# EAGLE library part MSATA (library logic-supply)
mSATA connector
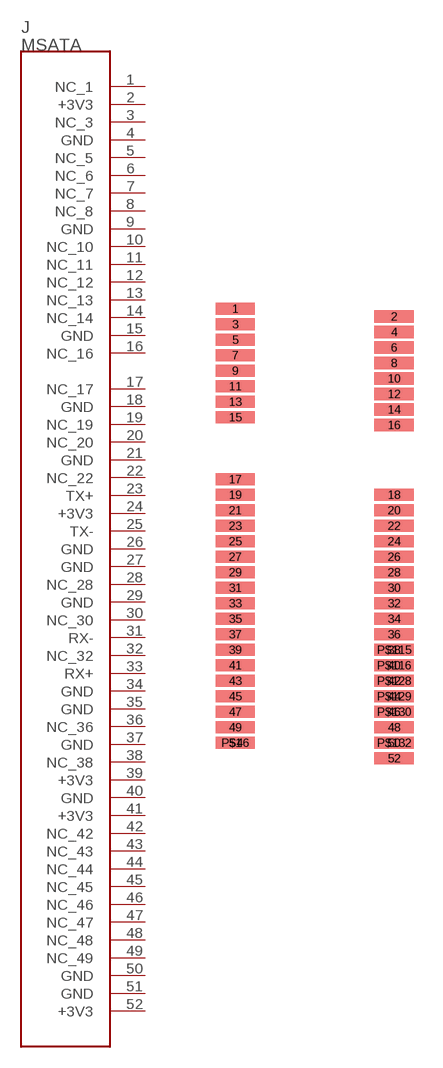
[diagram p52: symbol with the pads of MSATA; footprint MSATA]

Designator prefix J

## MSATA  [MSATA]
1  NC_1
2  +3V3
3  NC_3
4  GND
5  NC_5
6  NC_6
7  NC_7
8  NC_8
9  GND
10  NC_10
11  NC_11
12  NC_12
13  NC_13
14  NC_14
15  GND
16  NC_16
17  NC_17
18  GND
19  NC_19
20  NC_20
21  GND
22  NC_22
23  TX+
24  +3V3
25  TX-
26  GND
27  GND
28  NC_28
29  GND
30  NC_30
31  RX-
32  NC_32
33  RX+
34  GND
35  GND
36  NC_36
37  GND
38  NC_38
39  +3V3
40  GND
41  +3V3
42  NC_42
43  NC_43
44  NC_44
45  NC_45
46  NC_46
47  NC_47
48  NC_48
49  NC_49
50  GND
51  GND
52  +3V3

## Footprint MSATA (pad centres in mm)
mSATA basic footprint - un verified - CAUTION
smd 2.032 x 0.635: 1 -4.1,7.2; 2 4.1,6.8; 3 -4.1,6.4; 4 4.1,6; 5 -4.1,5.6; 6 4.1,5.2; 7 -4.1,4.8; 8 4.1,4.4; 9 -4.1,4; 10 4.1,3.6; 11 -4.1,3.2; 12 4.1,2.8; 13 -4.1,2.4; 14 4.1,2; 15 -4.1,1.6; 16 4.1,1.2; 17 -4.1,-1.6; 18 4.1,-2.4; 19 -4.1,-2.4; 20 4.1,-3.2; 21 -4.1,-3.2; 22 4.1,-4; 23 -4.1,-4; 24 4.1,-4.8; 25 -4.1,-4.8; 26 4.1,-5.6; 27 -4.1,-5.6; 28 4.1,-6.4; 29 -4.1,-6.4; 30 4.1,-7.2; 31 -4.1,-7.2; 32 4.1,-8; 33 -4.1,-8; 34 4.1,-8.8; 35 -4.1,-8.8; 36 4.1,-9.6; 37 -4.1,-9.6; 38 4.1,-10.4; 39 -4.1,-10.4; 40 4.1,-11.2; 41 -4.1,-11.2; 42 4.1,-12; 43 -4.1,-12; 44 4.1,-12.8; 45 -4.1,-12.8; 46 4.1,-13.6; 47 -4.1,-13.6; 48 4.1,-14.4; 49 -4.1,-14.4; 50 4.1,-15.2; 51 -4.1,-15.2; 52 4.1,-16; P$46 -4.1,-15.2; P$115 4.1,-10.4; P$116 4.1,-11.2; P$128 4.1,-12; P$129 4.1,-12.8; P$130 4.1,-13.6; P$132 4.1,-15.2